# Altium footprint library RES2410.PcbLib: 1 footprints
Each footprint in its own frame and in the unit in brackets; x right, y up, seen from the top. Pads: shape width x height; smd on the part's side, far side on the other; paste and mask are expansions set on the pad; w line width, h text height; cw(c..) or ccw(c..) is an arc to the next point about the centre after c.
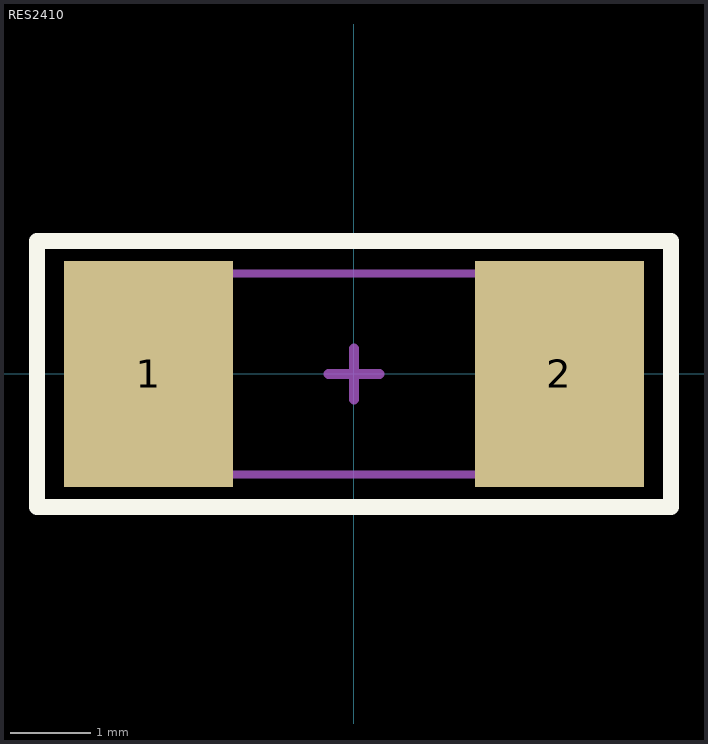
[diagram p0: the footprint, top view; thin cyan lines are the x and y axes]

## RES2410 [mm]
pads (2):
  rect 2.1x2.8 smd mask+0.051: 1(-2.55,0) 2(2.55,0)
Top Overlay:
  lines w0.2: -3.937,-1.651 -3.937,1.651 3.937,1.651 3.937,-1.651 -3.937,-1.651
Top Designator:
  text ".Designator" at -7.618,-0.508 h1.52
Mechanical 13:
  lines w0.1: -3,-1.25 -3,1.25 3,1.25 3,-1.25 -3,-1.25
Mechanical 15:
  lines w0.127: -0.318,0 0.318,0 ; 0,-0.318 0,0.318
3D body "CCF1N10TTE.stp": height 2.7, standoff 0, extent -3,-1.25 3,1.25